# Altium schematic symbol library RC0603.SchLib: 789 symbols (part 4 of 11)
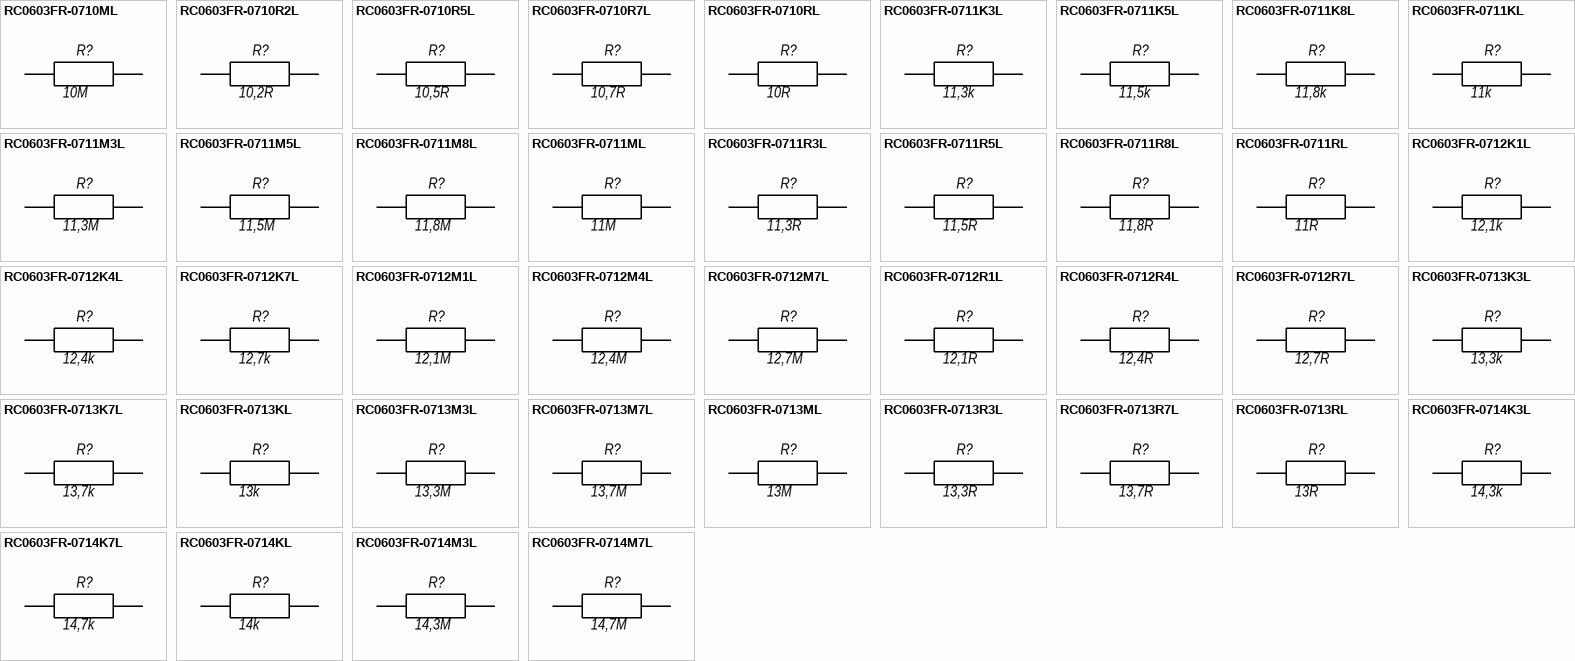
[diagram p22: symbols RC0603FR-0710ML to RC0603FR-0714M7L]

## RC0603FR-0713ML
designator R?, comment 13M
RC0603FR-0713ML 0603 13 MOhm ±1% 1/10W 0603 SMD -55C...+155C; Manufacturer: Yageo; BOM2: 13 MОм ±1%, 1/10 Вт, SMD 0603, RC0603FR-0713ML; ValueBOM: RC0603FR-0713ML   Yageo                            (13 MОм ±1%, 1/10 Вт, SMD 0603, RC0603FR-0713ML); Value: 13M; Part Number: RC0603FR-0713ML; Package: 0603; BOM1: 13 MOhm ±1% 1/10W 0603 SMD
footprint RESC_0603_1608N (Chip Resistor, Body 1.6x0.8mm, IPC Medium Density)
footprint RESC_0603_1608M (Chip Resistor, Body 1.6x0.8mm, IPC Low Density)
footprint RESC_0603_1608L (Chip Resistor, Body 1.6x0.8mm, IPC High Density)
pins: 1, 2

## RC0603FR-0713R3L
designator R?, comment 13,3R
RC0603FR-0713R3L 0603 13.3 Ohm ±1% 1/10W 0603 SMD -55C...+155C; Manufacturer: Yageo; BOM2: 13,3 Ом ±1%, 1/10 Вт, SMD 0603, RC0603FR-0713R3L; ValueBOM: RC0603FR-0713R3L   Yageo                            (13,3 Ом ±1%, 1/10 Вт, SMD 0603, RC0603FR-0713R3L); Value: 13,3R; Part Number: RC0603FR-0713R3L; Package: 0603; BOM1: 13.3 Ohm ±1% 1/10W 0603 SMD
footprint RESC_0603_1608N (Chip Resistor, Body 1.6x0.8mm, IPC Medium Density)
footprint RESC_0603_1608M (Chip Resistor, Body 1.6x0.8mm, IPC Low Density)
footprint RESC_0603_1608L (Chip Resistor, Body 1.6x0.8mm, IPC High Density)
pins: 1, 2

## RC0603FR-0713R7L
designator R?, comment 13,7R
RC0603FR-0713R7L 0603 13.7 Ohm ±1% 1/10W 0603 SMD -55C...+155C; Manufacturer: Yageo; BOM2: 13,7 Ом ±1%, 1/10 Вт, SMD 0603, RC0603FR-0713R7L; ValueBOM: RC0603FR-0713R7L   Yageo                            (13,7 Ом ±1%, 1/10 Вт, SMD 0603, RC0603FR-0713R7L); Value: 13,7R; Part Number: RC0603FR-0713R7L; Package: 0603; BOM1: 13.7 Ohm ±1% 1/10W 0603 SMD
footprint RESC_0603_1608N (Chip Resistor, Body 1.6x0.8mm, IPC Medium Density)
footprint RESC_0603_1608M (Chip Resistor, Body 1.6x0.8mm, IPC Low Density)
footprint RESC_0603_1608L (Chip Resistor, Body 1.6x0.8mm, IPC High Density)
pins: 1, 2

## RC0603FR-0713RL
designator R?, comment 13R
RC0603FR-0713RL 0603 13 Ohm ±1% 1/10W 0603 SMD -55C...+155C; Manufacturer: Yageo; BOM2: 13 Ом ±1%, 1/10 Вт, SMD 0603, RC0603FR-0713RL; ValueBOM: RC0603FR-0713RL   Yageo                            (13 Ом ±1%, 1/10 Вт, SMD 0603, RC0603FR-0713RL); Value: 13R; Part Number: RC0603FR-0713RL; Package: 0603; BOM1: 13 Ohm ±1% 1/10W 0603 SMD
footprint RESC_0603_1608N (Chip Resistor, Body 1.6x0.8mm, IPC Medium Density)
footprint RESC_0603_1608M (Chip Resistor, Body 1.6x0.8mm, IPC Low Density)
footprint RESC_0603_1608L (Chip Resistor, Body 1.6x0.8mm, IPC High Density)
pins: 1, 2

## RC0603FR-0714K3L
designator R?, comment 14,3k
RC0603FR-0714K3L 0603 14.3 kOhm ±1% 1/10W 0603 SMD -55C...+155C; Manufacturer: Yageo; BOM2: 14,3 кОм ±1%, 1/10 Вт, SMD 0603, RC0603FR-0714K3L; ValueBOM: RC0603FR-0714K3L   Yageo                            (14,3 кОм ±1%, 1/10 Вт, SMD 0603, RC0603FR-0714K3L); Value: 14,3k; Part Number: RC0603FR-0714K3L; Package: 0603; BOM1: 14.3 kOhm ±1% 1/10W 0603 SMD
footprint RESC_0603_1608N (Chip Resistor, Body 1.6x0.8mm, IPC Medium Density)
footprint RESC_0603_1608M (Chip Resistor, Body 1.6x0.8mm, IPC Low Density)
footprint RESC_0603_1608L (Chip Resistor, Body 1.6x0.8mm, IPC High Density)
pins: 1, 2

## RC0603FR-0714K7L
designator R?, comment 14,7k
RC0603FR-0714K7L 0603 14.7 kOhm ±1% 1/10W 0603 SMD -55C...+155C; Manufacturer: Yageo; BOM2: 14,7 кОм ±1%, 1/10 Вт, SMD 0603, RC0603FR-0714K7L; ValueBOM: RC0603FR-0714K7L   Yageo                            (14,7 кОм ±1%, 1/10 Вт, SMD 0603, RC0603FR-0714K7L); Value: 14,7k; Part Number: RC0603FR-0714K7L; Package: 0603; BOM1: 14.7 kOhm ±1% 1/10W 0603 SMD
footprint RESC_0603_1608N (Chip Resistor, Body 1.6x0.8mm, IPC Medium Density)
footprint RESC_0603_1608M (Chip Resistor, Body 1.6x0.8mm, IPC Low Density)
footprint RESC_0603_1608L (Chip Resistor, Body 1.6x0.8mm, IPC High Density)
pins: 1, 2

## RC0603FR-0714KL
designator R?, comment 14k
RC0603FR-0714KL 0603 14 kOhm ±1% 1/10W 0603 SMD -55C...+155C; Manufacturer: Yageo; BOM2: 14 кОм ±1%, 1/10 Вт, SMD 0603, RC0603FR-0714KL; ValueBOM: RC0603FR-0714KL   Yageo                            (14 кОм ±1%, 1/10 Вт, SMD 0603, RC0603FR-0714KL); Value: 14k; Part Number: RC0603FR-0714KL; Package: 0603; BOM1: 14 kOhm ±1% 1/10W 0603 SMD
footprint RESC_0603_1608N (Chip Resistor, Body 1.6x0.8mm, IPC Medium Density)
footprint RESC_0603_1608M (Chip Resistor, Body 1.6x0.8mm, IPC Low Density)
footprint RESC_0603_1608L (Chip Resistor, Body 1.6x0.8mm, IPC High Density)
pins: 1, 2

## RC0603FR-0714M3L
designator R?, comment 14,3M
RC0603FR-0714M3L 0603 14.3 MOhm ±1% 1/10W 0603 SMD -55C...+155C; Manufacturer: Yageo; BOM2: 14,3 МОм ±1%, 1/10 Вт, SMD 0603, RC0603FR-0714M3L; ValueBOM: RC0603FR-0714M3L   Yageo                            (14,3 МОм ±1%, 1/10 Вт, SMD 0603, RC0603FR-0714M3L); Value: 14,3M; Part Number: RC0603FR-0714M3L; Package: 0603; BOM1: 14.3 MOhm ±1% 1/10W 0603 SMD
footprint RESC_0603_1608N (Chip Resistor, Body 1.6x0.8mm, IPC Medium Density)
footprint RESC_0603_1608M (Chip Resistor, Body 1.6x0.8mm, IPC Low Density)
footprint RESC_0603_1608L (Chip Resistor, Body 1.6x0.8mm, IPC High Density)
pins: 1, 2

## RC0603FR-0714M7L
designator R?, comment 14,7M
RC0603FR-0714M7L 0603 14.7 MOhm ±1% 1/10W 0603 SMD -55C...+155C; Manufacturer: Yageo; BOM2: 14,7 МОм ±1%, 1/10 Вт, SMD 0603, RC0603FR-0714M7L; ValueBOM: RC0603FR-0714M7L   Yageo                            (14,7 МОм ±1%, 1/10 Вт, SMD 0603, RC0603FR-0714M7L); Value: 14,7M; Part Number: RC0603FR-0714M7L; Package: 0603; BOM1: 14.7 MOhm ±1% 1/10W 0603 SMD
footprint RESC_0603_1608N (Chip Resistor, Body 1.6x0.8mm, IPC Medium Density)
footprint RESC_0603_1608M (Chip Resistor, Body 1.6x0.8mm, IPC Low Density)
footprint RESC_0603_1608L (Chip Resistor, Body 1.6x0.8mm, IPC High Density)
pins: 1, 2

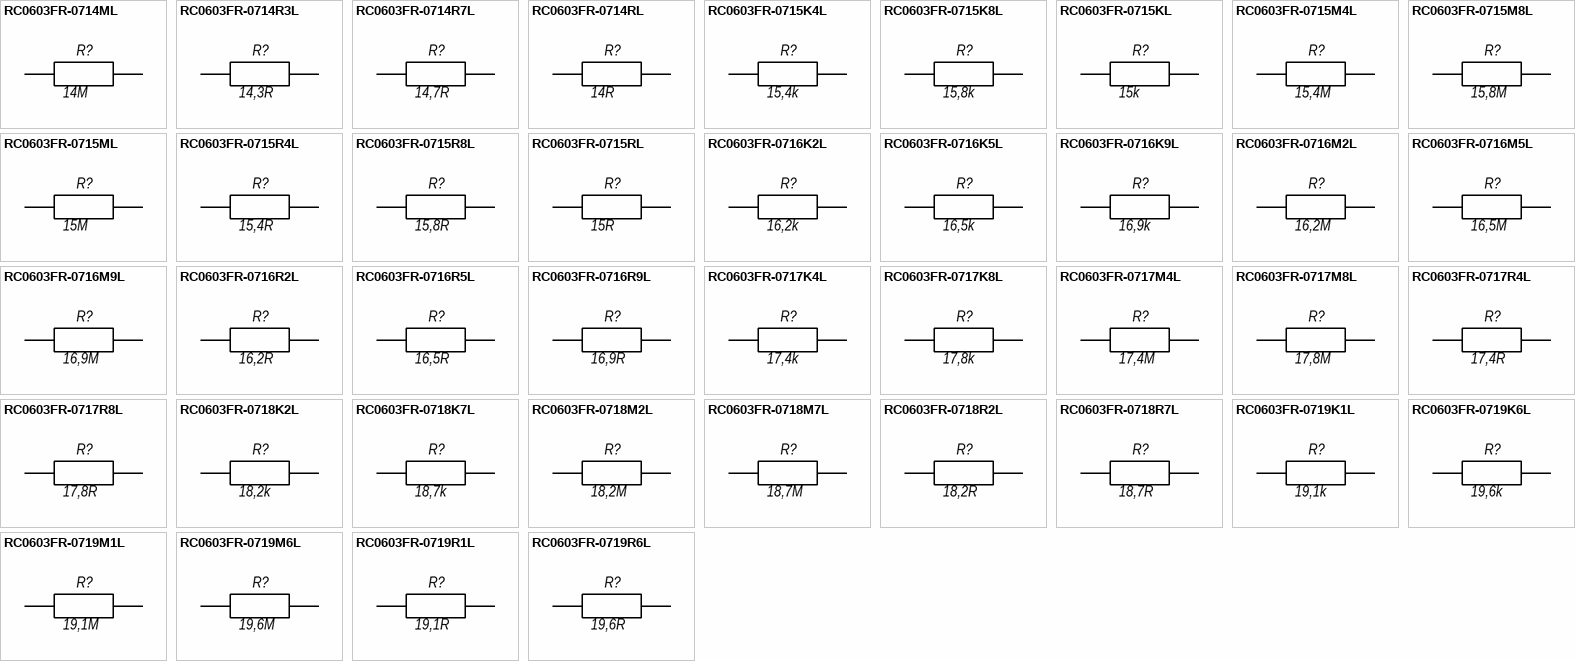
[diagram p6: symbols RC0603FR-0714ML to RC0603FR-0719R6L]

## RC0603FR-0714ML
designator R?, comment 14M
RC0603FR-0714ML 0603 14 MOhm ±1% 1/10W 0603 SMD -55C...+155C; Manufacturer: Yageo; BOM2: 14 MОм ±1%, 1/10 Вт, SMD 0603, RC0603FR-0714ML; ValueBOM: RC0603FR-0714ML   Yageo                            (14 MОм ±1%, 1/10 Вт, SMD 0603, RC0603FR-0714ML); Value: 14M; Part Number: RC0603FR-0714ML; Package: 0603; BOM1: 14 MOhm ±1% 1/10W 0603 SMD
footprint RESC_0603_1608N (Chip Resistor, Body 1.6x0.8mm, IPC Medium Density)
footprint RESC_0603_1608M (Chip Resistor, Body 1.6x0.8mm, IPC Low Density)
footprint RESC_0603_1608L (Chip Resistor, Body 1.6x0.8mm, IPC High Density)
pins: 1, 2

## RC0603FR-0714R3L
designator R?, comment 14,3R
RC0603FR-0714R3L 0603 14.3 Ohm ±1% 1/10W 0603 SMD -55C...+155C; Manufacturer: Yageo; BOM2: 14,3 Ом ±1%, 1/10 Вт, SMD 0603, RC0603FR-0714R3L; ValueBOM: RC0603FR-0714R3L   Yageo                            (14,3 Ом ±1%, 1/10 Вт, SMD 0603, RC0603FR-0714R3L); Value: 14,3R; Part Number: RC0603FR-0714R3L; Package: 0603; BOM1: 14.3 Ohm ±1% 1/10W 0603 SMD
footprint RESC_0603_1608N (Chip Resistor, Body 1.6x0.8mm, IPC Medium Density)
footprint RESC_0603_1608M (Chip Resistor, Body 1.6x0.8mm, IPC Low Density)
footprint RESC_0603_1608L (Chip Resistor, Body 1.6x0.8mm, IPC High Density)
pins: 1, 2

## RC0603FR-0714R7L
designator R?, comment 14,7R
RC0603FR-0714R7L 0603 14.7 Ohm ±1% 1/10W 0603 SMD -55C...+155C; Manufacturer: Yageo; BOM2: 14,7 Ом ±1%, 1/10 Вт, SMD 0603, RC0603FR-0714R7L; ValueBOM: RC0603FR-0714R7L   Yageo                            (14,7 Ом ±1%, 1/10 Вт, SMD 0603, RC0603FR-0714R7L); Value: 14,7R; Part Number: RC0603FR-0714R7L; Package: 0603; BOM1: 14.7 Ohm ±1% 1/10W 0603 SMD
footprint RESC_0603_1608N (Chip Resistor, Body 1.6x0.8mm, IPC Medium Density)
footprint RESC_0603_1608M (Chip Resistor, Body 1.6x0.8mm, IPC Low Density)
footprint RESC_0603_1608L (Chip Resistor, Body 1.6x0.8mm, IPC High Density)
pins: 1, 2

## RC0603FR-0714RL
designator R?, comment 14R
RC0603FR-0714RL 0603 14 Ohm ±1% 1/10W 0603 SMD -55C...+155C; Manufacturer: Yageo; BOM2: 14 Ом ±1%, 1/10 Вт, SMD 0603, RC0603FR-0714RL; ValueBOM: RC0603FR-0714RL   Yageo                            (14 Ом ±1%, 1/10 Вт, SMD 0603, RC0603FR-0714RL); Value: 14R; Part Number: RC0603FR-0714RL; Package: 0603; BOM1: 14 Ohm ±1% 1/10W 0603 SMD
footprint RESC_0603_1608N (Chip Resistor, Body 1.6x0.8mm, IPC Medium Density)
footprint RESC_0603_1608M (Chip Resistor, Body 1.6x0.8mm, IPC Low Density)
footprint RESC_0603_1608L (Chip Resistor, Body 1.6x0.8mm, IPC High Density)
pins: 1, 2

## RC0603FR-0715K4L
designator R?, comment 15,4k
RC0603FR-0715K4L 0603 15.4 kOhm ±1% 1/10W 0603 SMD -55C...+155C; Manufacturer: Yageo; BOM2: 15,4 кОм ±1%, 1/10 Вт, SMD 0603, RC0603FR-0715K4L; ValueBOM: RC0603FR-0715K4L   Yageo                            (15,4 кОм ±1%, 1/10 Вт, SMD 0603, RC0603FR-0715K4L); Value: 15,4k; Part Number: RC0603FR-0715K4L; Package: 0603; BOM1: 15.4 kOhm ±1% 1/10W 0603 SMD
footprint RESC_0603_1608N (Chip Resistor, Body 1.6x0.8mm, IPC Medium Density)
footprint RESC_0603_1608M (Chip Resistor, Body 1.6x0.8mm, IPC Low Density)
footprint RESC_0603_1608L (Chip Resistor, Body 1.6x0.8mm, IPC High Density)
pins: 1, 2

## RC0603FR-0715K8L
designator R?, comment 15,8k
RC0603FR-0715K8L 0603 15.8 kOhm ±1% 1/10W 0603 SMD -55C...+155C; Manufacturer: Yageo; BOM2: 15,8 кОм ±1%, 1/10 Вт, SMD 0603, RC0603FR-0715K8L; ValueBOM: RC0603FR-0715K8L   Yageo                            (15,8 кОм ±1%, 1/10 Вт, SMD 0603, RC0603FR-0715K8L); Value: 15,8k; Part Number: RC0603FR-0715K8L; Package: 0603; BOM1: 15.8 kOhm ±1% 1/10W 0603 SMD
footprint RESC_0603_1608N (Chip Resistor, Body 1.6x0.8mm, IPC Medium Density)
footprint RESC_0603_1608M (Chip Resistor, Body 1.6x0.8mm, IPC Low Density)
footprint RESC_0603_1608L (Chip Resistor, Body 1.6x0.8mm, IPC High Density)
pins: 1, 2

## RC0603FR-0715KL
designator R?, comment 15k
RC0603FR-0715KL 0603 15 kOhm ±1% 1/10W 0603 SMD -55C...+155C; Manufacturer: Yageo; BOM2: 15 кОм ±1%, 1/10 Вт, SMD 0603, RC0603FR-0715KL; ValueBOM: RC0603FR-0715KL   Yageo                            (15 кОм ±1%, 1/10 Вт, SMD 0603, RC0603FR-0715KL); Value: 15k; Part Number: RC0603FR-0715KL; Package: 0603; BOM1: 15 kOhm ±1% 1/10W 0603 SMD
footprint RESC_0603_1608N (Chip Resistor, Body 1.6x0.8mm, IPC Medium Density)
footprint RESC_0603_1608M (Chip Resistor, Body 1.6x0.8mm, IPC Low Density)
footprint RESC_0603_1608L (Chip Resistor, Body 1.6x0.8mm, IPC High Density)
pins: 1, 2

## RC0603FR-0715M4L
designator R?, comment 15,4M
RC0603FR-0715M4L 0603 15.4 MOhm ±1% 1/10W 0603 SMD -55C...+155C; Manufacturer: Yageo; BOM2: 15,4 МОм ±1%, 1/10 Вт, SMD 0603, RC0603FR-0715M4L; ValueBOM: RC0603FR-0715M4L   Yageo                            (15,4 МОм ±1%, 1/10 Вт, SMD 0603, RC0603FR-0715M4L); Value: 15,4M; Part Number: RC0603FR-0715M4L; Package: 0603; BOM1: 15.4 MOhm ±1% 1/10W 0603 SMD
footprint RESC_0603_1608N (Chip Resistor, Body 1.6x0.8mm, IPC Medium Density)
footprint RESC_0603_1608M (Chip Resistor, Body 1.6x0.8mm, IPC Low Density)
footprint RESC_0603_1608L (Chip Resistor, Body 1.6x0.8mm, IPC High Density)
pins: 1, 2

## RC0603FR-0715M8L
designator R?, comment 15,8M
RC0603FR-0715M8L 0603 15.8 MOhm ±1% 1/10W 0603 SMD -55C...+155C; Manufacturer: Yageo; BOM2: 15,8 МОм ±1%, 1/10 Вт, SMD 0603, RC0603FR-0715M8L; ValueBOM: RC0603FR-0715M8L   Yageo                            (15,8 МОм ±1%, 1/10 Вт, SMD 0603, RC0603FR-0715M8L); Value: 15,8M; Part Number: RC0603FR-0715M8L; Package: 0603; BOM1: 15.8 MOhm ±1% 1/10W 0603 SMD
footprint RESC_0603_1608N (Chip Resistor, Body 1.6x0.8mm, IPC Medium Density)
footprint RESC_0603_1608M (Chip Resistor, Body 1.6x0.8mm, IPC Low Density)
footprint RESC_0603_1608L (Chip Resistor, Body 1.6x0.8mm, IPC High Density)
pins: 1, 2

## RC0603FR-0715ML
designator R?, comment 15M
RC0603FR-0715ML 0603 15 MOhm ±1% 1/10W 0603 SMD -55C...+155C; Manufacturer: Yageo; BOM2: 15 MОм ±1%, 1/10 Вт, SMD 0603, RC0603FR-0715ML; ValueBOM: RC0603FR-0715ML   Yageo                            (15 MОм ±1%, 1/10 Вт, SMD 0603, RC0603FR-0715ML); Value: 15M; Part Number: RC0603FR-0715ML; Package: 0603; BOM1: 15 MOhm ±1% 1/10W 0603 SMD
footprint RESC_0603_1608N (Chip Resistor, Body 1.6x0.8mm, IPC Medium Density)
footprint RESC_0603_1608M (Chip Resistor, Body 1.6x0.8mm, IPC Low Density)
footprint RESC_0603_1608L (Chip Resistor, Body 1.6x0.8mm, IPC High Density)
pins: 1, 2

## RC0603FR-0715R4L
designator R?, comment 15,4R
RC0603FR-0715R4L 0603 15.4 Ohm ±1% 1/10W 0603 SMD -55C...+155C; Manufacturer: Yageo; BOM2: 15,4 Ом ±1%, 1/10 Вт, SMD 0603, RC0603FR-0715R4L; ValueBOM: RC0603FR-0715R4L   Yageo                            (15,4 Ом ±1%, 1/10 Вт, SMD 0603, RC0603FR-0715R4L); Value: 15,4R; Part Number: RC0603FR-0715R4L; Package: 0603; BOM1: 15.4 Ohm ±1% 1/10W 0603 SMD
footprint RESC_0603_1608N (Chip Resistor, Body 1.6x0.8mm, IPC Medium Density)
footprint RESC_0603_1608M (Chip Resistor, Body 1.6x0.8mm, IPC Low Density)
footprint RESC_0603_1608L (Chip Resistor, Body 1.6x0.8mm, IPC High Density)
pins: 1, 2

## RC0603FR-0715R8L
designator R?, comment 15,8R
RC0603FR-0715R8L 0603 15.8 Ohm ±1% 1/10W 0603 SMD -55C...+155C; Manufacturer: Yageo; BOM2: 15,8 Ом ±1%, 1/10 Вт, SMD 0603, RC0603FR-0715R8L; ValueBOM: RC0603FR-0715R8L   Yageo                            (15,8 Ом ±1%, 1/10 Вт, SMD 0603, RC0603FR-0715R8L); Value: 15,8R; Part Number: RC0603FR-0715R8L; Package: 0603; BOM1: 15.8 Ohm ±1% 1/10W 0603 SMD
footprint RESC_0603_1608N (Chip Resistor, Body 1.6x0.8mm, IPC Medium Density)
footprint RESC_0603_1608M (Chip Resistor, Body 1.6x0.8mm, IPC Low Density)
footprint RESC_0603_1608L (Chip Resistor, Body 1.6x0.8mm, IPC High Density)
pins: 1, 2

## RC0603FR-0715RL
designator R?, comment 15R
RC0603FR-0715RL 0603 15 Ohm ±1% 1/10W 0603 SMD -55C...+155C; Manufacturer: Yageo; BOM2: 15 Ом ±1%, 1/10 Вт, SMD 0603, RC0603FR-0715RL; ValueBOM: RC0603FR-0715RL   Yageo                            (15 Ом ±1%, 1/10 Вт, SMD 0603, RC0603FR-0715RL); Value: 15R; Part Number: RC0603FR-0715RL; Package: 0603; BOM1: 15 Ohm ±1% 1/10W 0603 SMD
footprint RESC_0603_1608N (Chip Resistor, Body 1.6x0.8mm, IPC Medium Density)
footprint RESC_0603_1608M (Chip Resistor, Body 1.6x0.8mm, IPC Low Density)
footprint RESC_0603_1608L (Chip Resistor, Body 1.6x0.8mm, IPC High Density)
pins: 1, 2

## RC0603FR-0716K2L
designator R?, comment 16,2k
RC0603FR-0716K2L 0603 16.2 kOhm ±1% 1/10W 0603 SMD -55C...+155C; Manufacturer: Yageo; BOM2: 16,2 кОм ±1%, 1/10 Вт, SMD 0603, RC0603FR-0716K2L; ValueBOM: RC0603FR-0716K2L   Yageo                            (16,2 кОм ±1%, 1/10 Вт, SMD 0603, RC0603FR-0716K2L); Value: 16,2k; Part Number: RC0603FR-0716K2L; Package: 0603; BOM1: 16.2 kOhm ±1% 1/10W 0603 SMD
footprint RESC_0603_1608N (Chip Resistor, Body 1.6x0.8mm, IPC Medium Density)
footprint RESC_0603_1608M (Chip Resistor, Body 1.6x0.8mm, IPC Low Density)
footprint RESC_0603_1608L (Chip Resistor, Body 1.6x0.8mm, IPC High Density)
pins: 1, 2

## RC0603FR-0716K5L
designator R?, comment 16,5k
RC0603FR-0716K5L 0603 16.5 kOhm ±1% 1/10W 0603 SMD -55C...+155C; Manufacturer: Yageo; BOM2: 16,5 кОм ±1%, 1/10 Вт, SMD 0603, RC0603FR-0716K5L; ValueBOM: RC0603FR-0716K5L   Yageo                            (16,5 кОм ±1%, 1/10 Вт, SMD 0603, RC0603FR-0716K5L); Value: 16,5k; Part Number: RC0603FR-0716K5L; Package: 0603; BOM1: 16.5 kOhm ±1% 1/10W 0603 SMD
footprint RESC_0603_1608N (Chip Resistor, Body 1.6x0.8mm, IPC Medium Density)
footprint RESC_0603_1608M (Chip Resistor, Body 1.6x0.8mm, IPC Low Density)
footprint RESC_0603_1608L (Chip Resistor, Body 1.6x0.8mm, IPC High Density)
pins: 1, 2

## RC0603FR-0716K9L
designator R?, comment 16,9k
RC0603FR-0716K9L 0603 16.9 kOhm ±1% 1/10W 0603 SMD -55C...+155C; Manufacturer: Yageo; BOM2: 16,9 кОм ±1%, 1/10 Вт, SMD 0603, RC0603FR-0716K9L; ValueBOM: RC0603FR-0716K9L   Yageo                            (16,9 кОм ±1%, 1/10 Вт, SMD 0603, RC0603FR-0716K9L); Value: 16,9k; Part Number: RC0603FR-0716K9L; Package: 0603; BOM1: 16.9 kOhm ±1% 1/10W 0603 SMD
footprint RESC_0603_1608N (Chip Resistor, Body 1.6x0.8mm, IPC Medium Density)
footprint RESC_0603_1608M (Chip Resistor, Body 1.6x0.8mm, IPC Low Density)
footprint RESC_0603_1608L (Chip Resistor, Body 1.6x0.8mm, IPC High Density)
pins: 1, 2

## RC0603FR-0716M2L
designator R?, comment 16,2M
RC0603FR-0716M2L 0603 16.2 MOhm ±1% 1/10W 0603 SMD -55C...+155C; Manufacturer: Yageo; BOM2: 16,2 МОм ±1%, 1/10 Вт, SMD 0603, RC0603FR-0716M2L; ValueBOM: RC0603FR-0716M2L   Yageo                            (16,2 МОм ±1%, 1/10 Вт, SMD 0603, RC0603FR-0716M2L); Value: 16,2M; Part Number: RC0603FR-0716M2L; Package: 0603; BOM1: 16.2 MOhm ±1% 1/10W 0603 SMD
footprint RESC_0603_1608N (Chip Resistor, Body 1.6x0.8mm, IPC Medium Density)
footprint RESC_0603_1608M (Chip Resistor, Body 1.6x0.8mm, IPC Low Density)
footprint RESC_0603_1608L (Chip Resistor, Body 1.6x0.8mm, IPC High Density)
pins: 1, 2

## RC0603FR-0716M5L
designator R?, comment 16,5M
RC0603FR-0716M5L 0603 16.5 MOhm ±1% 1/10W 0603 SMD -55C...+155C; Manufacturer: Yageo; BOM2: 16,5 МОм ±1%, 1/10 Вт, SMD 0603, RC0603FR-0716M5L; ValueBOM: RC0603FR-0716M5L   Yageo                            (16,5 МОм ±1%, 1/10 Вт, SMD 0603, RC0603FR-0716M5L); Value: 16,5M; Part Number: RC0603FR-0716M5L; Package: 0603; BOM1: 16.5 MOhm ±1% 1/10W 0603 SMD
footprint RESC_0603_1608N (Chip Resistor, Body 1.6x0.8mm, IPC Medium Density)
footprint RESC_0603_1608M (Chip Resistor, Body 1.6x0.8mm, IPC Low Density)
footprint RESC_0603_1608L (Chip Resistor, Body 1.6x0.8mm, IPC High Density)
pins: 1, 2

## RC0603FR-0716M9L
designator R?, comment 16,9M
RC0603FR-0716M9L 0603 16.9 MOhm ±1% 1/10W 0603 SMD -55C...+155C; Manufacturer: Yageo; BOM2: 16,9 МОм ±1%, 1/10 Вт, SMD 0603, RC0603FR-0716M9L; ValueBOM: RC0603FR-0716M9L   Yageo                            (16,9 МОм ±1%, 1/10 Вт, SMD 0603, RC0603FR-0716M9L); Value: 16,9M; Part Number: RC0603FR-0716M9L; Package: 0603; BOM1: 16.9 MOhm ±1% 1/10W 0603 SMD
footprint RESC_0603_1608N (Chip Resistor, Body 1.6x0.8mm, IPC Medium Density)
footprint RESC_0603_1608M (Chip Resistor, Body 1.6x0.8mm, IPC Low Density)
footprint RESC_0603_1608L (Chip Resistor, Body 1.6x0.8mm, IPC High Density)
pins: 1, 2

## RC0603FR-0716R2L
designator R?, comment 16,2R
RC0603FR-0716R2L 0603 16.2 Ohm ±1% 1/10W 0603 SMD -55C...+155C; Manufacturer: Yageo; BOM2: 16,2 Ом ±1%, 1/10 Вт, SMD 0603, RC0603FR-0716R2L; ValueBOM: RC0603FR-0716R2L   Yageo                            (16,2 Ом ±1%, 1/10 Вт, SMD 0603, RC0603FR-0716R2L); Value: 16,2R; Part Number: RC0603FR-0716R2L; Package: 0603; BOM1: 16.2 Ohm ±1% 1/10W 0603 SMD
footprint RESC_0603_1608N (Chip Resistor, Body 1.6x0.8mm, IPC Medium Density)
footprint RESC_0603_1608M (Chip Resistor, Body 1.6x0.8mm, IPC Low Density)
footprint RESC_0603_1608L (Chip Resistor, Body 1.6x0.8mm, IPC High Density)
pins: 1, 2

## RC0603FR-0716R5L
designator R?, comment 16,5R
RC0603FR-0716R5L 0603 16.5 Ohm ±1% 1/10W 0603 SMD -55C...+155C; Manufacturer: Yageo; BOM2: 16,5 Ом ±1%, 1/10 Вт, SMD 0603, RC0603FR-0716R5L; ValueBOM: RC0603FR-0716R5L   Yageo                            (16,5 Ом ±1%, 1/10 Вт, SMD 0603, RC0603FR-0716R5L); Value: 16,5R; Part Number: RC0603FR-0716R5L; Package: 0603; BOM1: 16.5 Ohm ±1% 1/10W 0603 SMD
footprint RESC_0603_1608N (Chip Resistor, Body 1.6x0.8mm, IPC Medium Density)
footprint RESC_0603_1608M (Chip Resistor, Body 1.6x0.8mm, IPC Low Density)
footprint RESC_0603_1608L (Chip Resistor, Body 1.6x0.8mm, IPC High Density)
pins: 1, 2

## RC0603FR-0716R9L
designator R?, comment 16,9R
RC0603FR-0716R9L 0603 16.9 Ohm ±1% 1/10W 0603 SMD -55C...+155C; Manufacturer: Yageo; BOM2: 16,9 Ом ±1%, 1/10 Вт, SMD 0603, RC0603FR-0716R9L; ValueBOM: RC0603FR-0716R9L   Yageo                            (16,9 Ом ±1%, 1/10 Вт, SMD 0603, RC0603FR-0716R9L); Value: 16,9R; Part Number: RC0603FR-0716R9L; Package: 0603; BOM1: 16.9 Ohm ±1% 1/10W 0603 SMD
footprint RESC_0603_1608N (Chip Resistor, Body 1.6x0.8mm, IPC Medium Density)
footprint RESC_0603_1608M (Chip Resistor, Body 1.6x0.8mm, IPC Low Density)
footprint RESC_0603_1608L (Chip Resistor, Body 1.6x0.8mm, IPC High Density)
pins: 1, 2

## RC0603FR-0717K4L
designator R?, comment 17,4k
RC0603FR-0717K4L 0603 17.4 kOhm ±1% 1/10W 0603 SMD -55C...+155C; Manufacturer: Yageo; BOM2: 17,4 кОм ±1%, 1/10 Вт, SMD 0603, RC0603FR-0717K4L; ValueBOM: RC0603FR-0717K4L   Yageo                            (17,4 кОм ±1%, 1/10 Вт, SMD 0603, RC0603FR-0717K4L); Value: 17,4k; Part Number: RC0603FR-0717K4L; Package: 0603; BOM1: 17.4 kOhm ±1% 1/10W 0603 SMD
footprint RESC_0603_1608N (Chip Resistor, Body 1.6x0.8mm, IPC Medium Density)
footprint RESC_0603_1608M (Chip Resistor, Body 1.6x0.8mm, IPC Low Density)
footprint RESC_0603_1608L (Chip Resistor, Body 1.6x0.8mm, IPC High Density)
pins: 1, 2

## RC0603FR-0717K8L
designator R?, comment 17,8k
RC0603FR-0717K8L 0603 17.8 kOhm ±1% 1/10W 0603 SMD -55C...+155C; Manufacturer: Yageo; BOM2: 17,8 кОм ±1%, 1/10 Вт, SMD 0603, RC0603FR-0717K8L; ValueBOM: RC0603FR-0717K8L   Yageo                            (17,8 кОм ±1%, 1/10 Вт, SMD 0603, RC0603FR-0717K8L); Value: 17,8k; Part Number: RC0603FR-0717K8L; Package: 0603; BOM1: 17.8 kOhm ±1% 1/10W 0603 SMD
footprint RESC_0603_1608N (Chip Resistor, Body 1.6x0.8mm, IPC Medium Density)
footprint RESC_0603_1608M (Chip Resistor, Body 1.6x0.8mm, IPC Low Density)
footprint RESC_0603_1608L (Chip Resistor, Body 1.6x0.8mm, IPC High Density)
pins: 1, 2

## RC0603FR-0717M4L
designator R?, comment 17,4M
RC0603FR-0717M4L 0603 17.4 MOhm ±1% 1/10W 0603 SMD -55C...+155C; Manufacturer: Yageo; BOM2: 17,4 МОм ±1%, 1/10 Вт, SMD 0603, RC0603FR-0717M4L; ValueBOM: RC0603FR-0717M4L   Yageo                            (17,4 МОм ±1%, 1/10 Вт, SMD 0603, RC0603FR-0717M4L); Value: 17,4M; Part Number: RC0603FR-0717M4L; Package: 0603; BOM1: 17.4 MOhm ±1% 1/10W 0603 SMD
footprint RESC_0603_1608N (Chip Resistor, Body 1.6x0.8mm, IPC Medium Density)
footprint RESC_0603_1608M (Chip Resistor, Body 1.6x0.8mm, IPC Low Density)
footprint RESC_0603_1608L (Chip Resistor, Body 1.6x0.8mm, IPC High Density)
pins: 1, 2

## RC0603FR-0717M8L
designator R?, comment 17,8M
RC0603FR-0717M8L 0603 17.8 MOhm ±1% 1/10W 0603 SMD -55C...+155C; Manufacturer: Yageo; BOM2: 17,8 МОм ±1%, 1/10 Вт, SMD 0603, RC0603FR-0717M8L; ValueBOM: RC0603FR-0717M8L   Yageo                            (17,8 МОм ±1%, 1/10 Вт, SMD 0603, RC0603FR-0717M8L); Value: 17,8M; Part Number: RC0603FR-0717M8L; Package: 0603; BOM1: 17.8 MOhm ±1% 1/10W 0603 SMD
footprint RESC_0603_1608N (Chip Resistor, Body 1.6x0.8mm, IPC Medium Density)
footprint RESC_0603_1608M (Chip Resistor, Body 1.6x0.8mm, IPC Low Density)
footprint RESC_0603_1608L (Chip Resistor, Body 1.6x0.8mm, IPC High Density)
pins: 1, 2

## RC0603FR-0717R4L
designator R?, comment 17,4R
RC0603FR-0717R4L 0603 17.4 Ohm ±1% 1/10W 0603 SMD -55C...+155C; Manufacturer: Yageo; BOM2: 17,4 Ом ±1%, 1/10 Вт, SMD 0603, RC0603FR-0717R4L; ValueBOM: RC0603FR-0717R4L   Yageo                            (17,4 Ом ±1%, 1/10 Вт, SMD 0603, RC0603FR-0717R4L); Value: 17,4R; Part Number: RC0603FR-0717R4L; Package: 0603; BOM1: 17.4 Ohm ±1% 1/10W 0603 SMD
footprint RESC_0603_1608N (Chip Resistor, Body 1.6x0.8mm, IPC Medium Density)
footprint RESC_0603_1608M (Chip Resistor, Body 1.6x0.8mm, IPC Low Density)
footprint RESC_0603_1608L (Chip Resistor, Body 1.6x0.8mm, IPC High Density)
pins: 1, 2

## RC0603FR-0717R8L
designator R?, comment 17,8R
RC0603FR-0717R8L 0603 17.8 Ohm ±1% 1/10W 0603 SMD -55C...+155C; Manufacturer: Yageo; BOM2: 17,8 Ом ±1%, 1/10 Вт, SMD 0603, RC0603FR-0717R8L; ValueBOM: RC0603FR-0717R8L   Yageo                            (17,8 Ом ±1%, 1/10 Вт, SMD 0603, RC0603FR-0717R8L); Value: 17,8R; Part Number: RC0603FR-0717R8L; Package: 0603; BOM1: 17.8 Ohm ±1% 1/10W 0603 SMD
footprint RESC_0603_1608N (Chip Resistor, Body 1.6x0.8mm, IPC Medium Density)
footprint RESC_0603_1608M (Chip Resistor, Body 1.6x0.8mm, IPC Low Density)
footprint RESC_0603_1608L (Chip Resistor, Body 1.6x0.8mm, IPC High Density)
pins: 1, 2

## RC0603FR-0718K2L
designator R?, comment 18,2k
RC0603FR-0718K2L 0603 18.2 kOhm ±1% 1/10W 0603 SMD -55C...+155C; Manufacturer: Yageo; BOM2: 18,2 кОм ±1%, 1/10 Вт, SMD 0603, RC0603FR-0718K2L; ValueBOM: RC0603FR-0718K2L   Yageo                            (18,2 кОм ±1%, 1/10 Вт, SMD 0603, RC0603FR-0718K2L); Value: 18,2k; Part Number: RC0603FR-0718K2L; Package: 0603; BOM1: 18.2 kOhm ±1% 1/10W 0603 SMD
footprint RESC_0603_1608N (Chip Resistor, Body 1.6x0.8mm, IPC Medium Density)
footprint RESC_0603_1608M (Chip Resistor, Body 1.6x0.8mm, IPC Low Density)
footprint RESC_0603_1608L (Chip Resistor, Body 1.6x0.8mm, IPC High Density)
pins: 1, 2

## RC0603FR-0718K7L
designator R?, comment 18,7k
RC0603FR-0718K7L 0603 18.7 kOhm ±1% 1/10W 0603 SMD -55C...+155C; Manufacturer: Yageo; BOM2: 18,7 кОм ±1%, 1/10 Вт, SMD 0603, RC0603FR-0718K7L; ValueBOM: RC0603FR-0718K7L   Yageo                            (18,7 кОм ±1%, 1/10 Вт, SMD 0603, RC0603FR-0718K7L); Value: 18,7k; Part Number: RC0603FR-0718K7L; Package: 0603; BOM1: 18.7 kOhm ±1% 1/10W 0603 SMD
footprint RESC_0603_1608N (Chip Resistor, Body 1.6x0.8mm, IPC Medium Density)
footprint RESC_0603_1608M (Chip Resistor, Body 1.6x0.8mm, IPC Low Density)
footprint RESC_0603_1608L (Chip Resistor, Body 1.6x0.8mm, IPC High Density)
pins: 1, 2

## RC0603FR-0718M2L
designator R?, comment 18,2M
RC0603FR-0718M2L 0603 18.2 MOhm ±1% 1/10W 0603 SMD -55C...+155C; Manufacturer: Yageo; BOM2: 18,2 МОм ±1%, 1/10 Вт, SMD 0603, RC0603FR-0718M2L; ValueBOM: RC0603FR-0718M2L   Yageo                            (18,2 МОм ±1%, 1/10 Вт, SMD 0603, RC0603FR-0718M2L); Value: 18,2M; Part Number: RC0603FR-0718M2L; Package: 0603; BOM1: 18.2 MOhm ±1% 1/10W 0603 SMD
footprint RESC_0603_1608N (Chip Resistor, Body 1.6x0.8mm, IPC Medium Density)
footprint RESC_0603_1608M (Chip Resistor, Body 1.6x0.8mm, IPC Low Density)
footprint RESC_0603_1608L (Chip Resistor, Body 1.6x0.8mm, IPC High Density)
pins: 1, 2

## RC0603FR-0718M7L
designator R?, comment 18,7M
RC0603FR-0718M7L 0603 18.7 MOhm ±1% 1/10W 0603 SMD -55C...+155C; Manufacturer: Yageo; BOM2: 18,7 МОм ±1%, 1/10 Вт, SMD 0603, RC0603FR-0718M7L; ValueBOM: RC0603FR-0718M7L   Yageo                            (18,7 МОм ±1%, 1/10 Вт, SMD 0603, RC0603FR-0718M7L); Value: 18,7M; Part Number: RC0603FR-0718M7L; Package: 0603; BOM1: 18.7 MOhm ±1% 1/10W 0603 SMD
footprint RESC_0603_1608N (Chip Resistor, Body 1.6x0.8mm, IPC Medium Density)
footprint RESC_0603_1608M (Chip Resistor, Body 1.6x0.8mm, IPC Low Density)
footprint RESC_0603_1608L (Chip Resistor, Body 1.6x0.8mm, IPC High Density)
pins: 1, 2

## RC0603FR-0718R2L
designator R?, comment 18,2R
RC0603FR-0718R2L 0603 18.2 Ohm ±1% 1/10W 0603 SMD -55C...+155C; Manufacturer: Yageo; BOM2: 18,2 Ом ±1%, 1/10 Вт, SMD 0603, RC0603FR-0718R2L; ValueBOM: RC0603FR-0718R2L   Yageo                            (18,2 Ом ±1%, 1/10 Вт, SMD 0603, RC0603FR-0718R2L); Value: 18,2R; Part Number: RC0603FR-0718R2L; Package: 0603; BOM1: 18.2 Ohm ±1% 1/10W 0603 SMD
footprint RESC_0603_1608N (Chip Resistor, Body 1.6x0.8mm, IPC Medium Density)
footprint RESC_0603_1608M (Chip Resistor, Body 1.6x0.8mm, IPC Low Density)
footprint RESC_0603_1608L (Chip Resistor, Body 1.6x0.8mm, IPC High Density)
pins: 1, 2

## RC0603FR-0718R7L
designator R?, comment 18,7R
RC0603FR-0718R7L 0603 18.7 Ohm ±1% 1/10W 0603 SMD -55C...+155C; Manufacturer: Yageo; BOM2: 18,7 Ом ±1%, 1/10 Вт, SMD 0603, RC0603FR-0718R7L; ValueBOM: RC0603FR-0718R7L   Yageo                            (18,7 Ом ±1%, 1/10 Вт, SMD 0603, RC0603FR-0718R7L); Value: 18,7R; Part Number: RC0603FR-0718R7L; Package: 0603; BOM1: 18.7 Ohm ±1% 1/10W 0603 SMD
footprint RESC_0603_1608N (Chip Resistor, Body 1.6x0.8mm, IPC Medium Density)
footprint RESC_0603_1608M (Chip Resistor, Body 1.6x0.8mm, IPC Low Density)
footprint RESC_0603_1608L (Chip Resistor, Body 1.6x0.8mm, IPC High Density)
pins: 1, 2

## RC0603FR-0719K1L
designator R?, comment 19,1k
RC0603FR-0719K1L 0603 19.1 kOhm ±1% 1/10W 0603 SMD -55C...+155C; Manufacturer: Yageo; BOM2: 19,1 кОм ±1%, 1/10 Вт, SMD 0603, RC0603FR-0719K1L; ValueBOM: RC0603FR-0719K1L   Yageo                            (19,1 кОм ±1%, 1/10 Вт, SMD 0603, RC0603FR-0719K1L); Value: 19,1k; Part Number: RC0603FR-0719K1L; Package: 0603; BOM1: 19.1 kOhm ±1% 1/10W 0603 SMD
footprint RESC_0603_1608N (Chip Resistor, Body 1.6x0.8mm, IPC Medium Density)
footprint RESC_0603_1608M (Chip Resistor, Body 1.6x0.8mm, IPC Low Density)
footprint RESC_0603_1608L (Chip Resistor, Body 1.6x0.8mm, IPC High Density)
pins: 1, 2

## RC0603FR-0719K6L
designator R?, comment 19,6k
RC0603FR-0719K6L 0603 19.6 kOhm ±1% 1/10W 0603 SMD -55C...+155C; Manufacturer: Yageo; BOM2: 19,6 кОм ±1%, 1/10 Вт, SMD 0603, RC0603FR-0719K6L; ValueBOM: RC0603FR-0719K6L   Yageo                            (19,6 кОм ±1%, 1/10 Вт, SMD 0603, RC0603FR-0719K6L); Value: 19,6k; Part Number: RC0603FR-0719K6L; Package: 0603; BOM1: 19.6 kOhm ±1% 1/10W 0603 SMD
footprint RESC_0603_1608N (Chip Resistor, Body 1.6x0.8mm, IPC Medium Density)
footprint RESC_0603_1608M (Chip Resistor, Body 1.6x0.8mm, IPC Low Density)
footprint RESC_0603_1608L (Chip Resistor, Body 1.6x0.8mm, IPC High Density)
pins: 1, 2

## RC0603FR-0719M1L
designator R?, comment 19,1M
RC0603FR-0719M1L 0603 19.1 MOhm ±1% 1/10W 0603 SMD -55C...+155C; Manufacturer: Yageo; BOM2: 19,1 МОм ±1%, 1/10 Вт, SMD 0603, RC0603FR-0719M1L; ValueBOM: RC0603FR-0719M1L   Yageo                            (19,1 МОм ±1%, 1/10 Вт, SMD 0603, RC0603FR-0719M1L); Value: 19,1M; Part Number: RC0603FR-0719M1L; Package: 0603; BOM1: 19.1 MOhm ±1% 1/10W 0603 SMD
footprint RESC_0603_1608N (Chip Resistor, Body 1.6x0.8mm, IPC Medium Density)
footprint RESC_0603_1608M (Chip Resistor, Body 1.6x0.8mm, IPC Low Density)
footprint RESC_0603_1608L (Chip Resistor, Body 1.6x0.8mm, IPC High Density)
pins: 1, 2

## RC0603FR-0719M6L
designator R?, comment 19,6M
RC0603FR-0719M6L 0603 19.6 MOhm ±1% 1/10W 0603 SMD -55C...+155C; Manufacturer: Yageo; BOM2: 19,6 МОм ±1%, 1/10 Вт, SMD 0603, RC0603FR-0719M6L; ValueBOM: RC0603FR-0719M6L   Yageo                            (19,6 МОм ±1%, 1/10 Вт, SMD 0603, RC0603FR-0719M6L); Value: 19,6M; Part Number: RC0603FR-0719M6L; Package: 0603; BOM1: 19.6 MOhm ±1% 1/10W 0603 SMD
footprint RESC_0603_1608N (Chip Resistor, Body 1.6x0.8mm, IPC Medium Density)
footprint RESC_0603_1608M (Chip Resistor, Body 1.6x0.8mm, IPC Low Density)
footprint RESC_0603_1608L (Chip Resistor, Body 1.6x0.8mm, IPC High Density)
pins: 1, 2

## RC0603FR-0719R1L
designator R?, comment 19,1R
RC0603FR-0719R1L 0603 19.1 Ohm ±1% 1/10W 0603 SMD -55C...+155C; Manufacturer: Yageo; BOM2: 19,1 Ом ±1%, 1/10 Вт, SMD 0603, RC0603FR-0719R1L; ValueBOM: RC0603FR-0719R1L   Yageo                            (19,1 Ом ±1%, 1/10 Вт, SMD 0603, RC0603FR-0719R1L); Value: 19,1R; Part Number: RC0603FR-0719R1L; Package: 0603; BOM1: 19.1 Ohm ±1% 1/10W 0603 SMD
footprint RESC_0603_1608N (Chip Resistor, Body 1.6x0.8mm, IPC Medium Density)
footprint RESC_0603_1608M (Chip Resistor, Body 1.6x0.8mm, IPC Low Density)
footprint RESC_0603_1608L (Chip Resistor, Body 1.6x0.8mm, IPC High Density)
pins: 1, 2

## RC0603FR-0719R6L
designator R?, comment 19,6R
RC0603FR-0719R6L 0603 19.6 Ohm ±1% 1/10W 0603 SMD -55C...+155C; Manufacturer: Yageo; BOM2: 19,6 Ом ±1%, 1/10 Вт, SMD 0603, RC0603FR-0719R6L; ValueBOM: RC0603FR-0719R6L   Yageo                            (19,6 Ом ±1%, 1/10 Вт, SMD 0603, RC0603FR-0719R6L); Value: 19,6R; Part Number: RC0603FR-0719R6L; Package: 0603; BOM1: 19.6 Ohm ±1% 1/10W 0603 SMD
footprint RESC_0603_1608N (Chip Resistor, Body 1.6x0.8mm, IPC Medium Density)
footprint RESC_0603_1608M (Chip Resistor, Body 1.6x0.8mm, IPC Low Density)
footprint RESC_0603_1608L (Chip Resistor, Body 1.6x0.8mm, IPC High Density)
pins: 1, 2

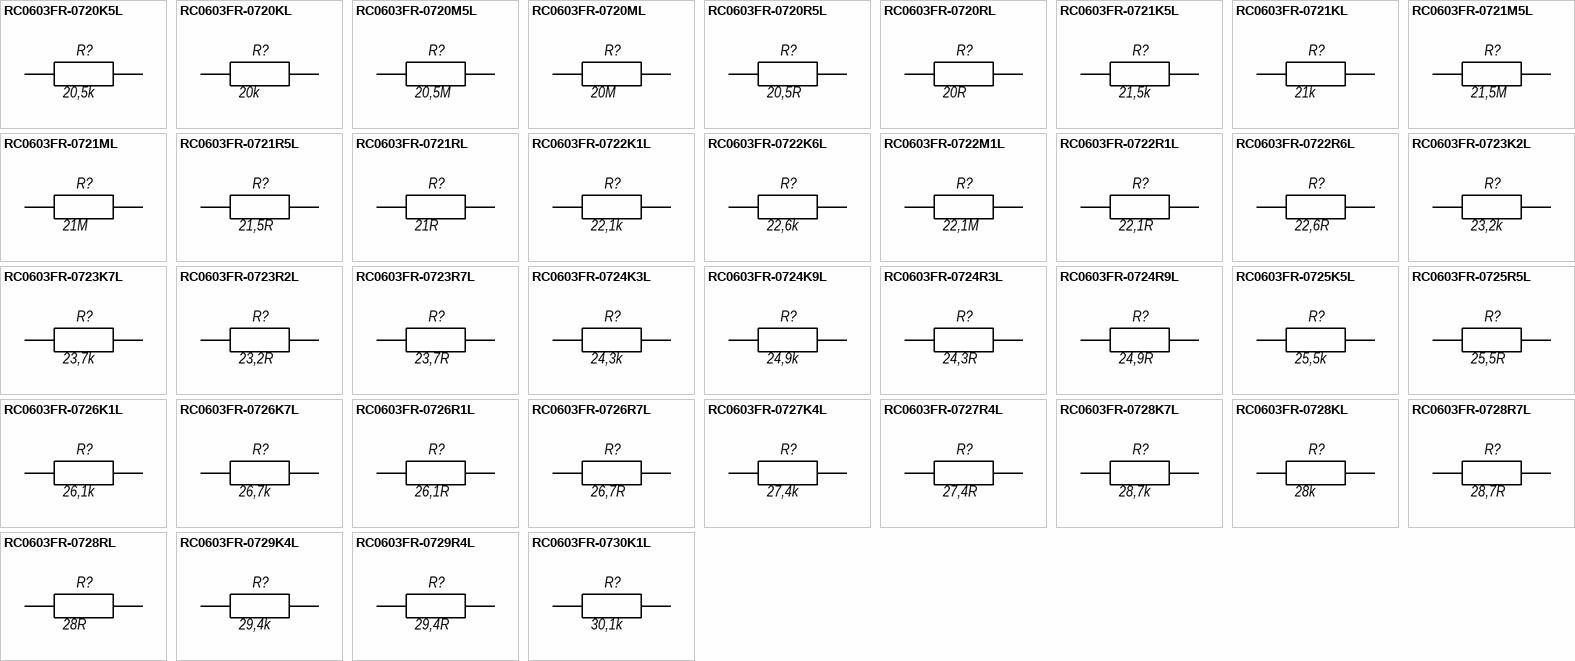
[diagram p7: symbols RC0603FR-0720K5L to RC0603FR-0730K1L]

## RC0603FR-0720K5L
designator R?, comment 20,5k
RC0603FR-0720K5L 0603 20.5 kOhm ±1% 1/10W 0603 SMD -55C...+155C; Manufacturer: Yageo; BOM2: 20,5 кОм ±1%, 1/10 Вт, SMD 0603, RC0603FR-0720K5L; ValueBOM: RC0603FR-0720K5L   Yageo                            (20,5 кОм ±1%, 1/10 Вт, SMD 0603, RC0603FR-0720K5L); Value: 20,5k; Part Number: RC0603FR-0720K5L; Package: 0603; BOM1: 20.5 kOhm ±1% 1/10W 0603 SMD
footprint RESC_0603_1608N (Chip Resistor, Body 1.6x0.8mm, IPC Medium Density)
footprint RESC_0603_1608M (Chip Resistor, Body 1.6x0.8mm, IPC Low Density)
footprint RESC_0603_1608L (Chip Resistor, Body 1.6x0.8mm, IPC High Density)
pins: 1, 2

## RC0603FR-0720KL
designator R?, comment 20k
RC0603FR-0720KL 0603 20 kOhm ±1% 1/10W 0603 SMD -55C...+155C; Manufacturer: Yageo; BOM2: 20 кОм ±1%, 1/10 Вт, SMD 0603, RC0603FR-0720KL; ValueBOM: RC0603FR-0720KL   Yageo                            (20 кОм ±1%, 1/10 Вт, SMD 0603, RC0603FR-0720KL); Value: 20k; Part Number: RC0603FR-0720KL; Package: 0603; BOM1: 20 kOhm ±1% 1/10W 0603 SMD
footprint RESC_0603_1608N (Chip Resistor, Body 1.6x0.8mm, IPC Medium Density)
footprint RESC_0603_1608M (Chip Resistor, Body 1.6x0.8mm, IPC Low Density)
footprint RESC_0603_1608L (Chip Resistor, Body 1.6x0.8mm, IPC High Density)
pins: 1, 2

## RC0603FR-0720M5L
designator R?, comment 20,5M
RC0603FR-0720M5L 0603 20.5 MOhm ±1% 1/10W 0603 SMD -55C...+155C; Manufacturer: Yageo; BOM2: 20,5 МОм ±1%, 1/10 Вт, SMD 0603, RC0603FR-0720M5L; ValueBOM: RC0603FR-0720M5L   Yageo                            (20,5 МОм ±1%, 1/10 Вт, SMD 0603, RC0603FR-0720M5L); Value: 20,5M; Part Number: RC0603FR-0720M5L; Package: 0603; BOM1: 20.5 MOhm ±1% 1/10W 0603 SMD
footprint RESC_0603_1608N (Chip Resistor, Body 1.6x0.8mm, IPC Medium Density)
footprint RESC_0603_1608M (Chip Resistor, Body 1.6x0.8mm, IPC Low Density)
footprint RESC_0603_1608L (Chip Resistor, Body 1.6x0.8mm, IPC High Density)
pins: 1, 2

## RC0603FR-0720ML
designator R?, comment 20M
RC0603FR-0720ML 0603 20 MOhm ±1% 1/10W 0603 SMD -55C...+155C; Manufacturer: Yageo; BOM2: 20 MОм ±1%, 1/10 Вт, SMD 0603, RC0603FR-0720ML; ValueBOM: RC0603FR-0720ML   Yageo                            (20 MОм ±1%, 1/10 Вт, SMD 0603, RC0603FR-0720ML); Value: 20M; Part Number: RC0603FR-0720ML; Package: 0603; BOM1: 20 MOhm ±1% 1/10W 0603 SMD
footprint RESC_0603_1608N (Chip Resistor, Body 1.6x0.8mm, IPC Medium Density)
footprint RESC_0603_1608M (Chip Resistor, Body 1.6x0.8mm, IPC Low Density)
footprint RESC_0603_1608L (Chip Resistor, Body 1.6x0.8mm, IPC High Density)
pins: 1, 2

## RC0603FR-0720R5L
designator R?, comment 20,5R
RC0603FR-0720R5L 0603 20.5 Ohm ±1% 1/10W 0603 SMD -55C...+155C; Manufacturer: Yageo; BOM2: 20,5 Ом ±1%, 1/10 Вт, SMD 0603, RC0603FR-0720R5L; ValueBOM: RC0603FR-0720R5L   Yageo                            (20,5 Ом ±1%, 1/10 Вт, SMD 0603, RC0603FR-0720R5L); Value: 20,5R; Part Number: RC0603FR-0720R5L; Package: 0603; BOM1: 20.5 Ohm ±1% 1/10W 0603 SMD
footprint RESC_0603_1608N (Chip Resistor, Body 1.6x0.8mm, IPC Medium Density)
footprint RESC_0603_1608M (Chip Resistor, Body 1.6x0.8mm, IPC Low Density)
footprint RESC_0603_1608L (Chip Resistor, Body 1.6x0.8mm, IPC High Density)
pins: 1, 2

## RC0603FR-0720RL
designator R?, comment 20R
RC0603FR-0720RL 0603 20 Ohm ±1% 1/10W 0603 SMD -55C...+155C; Manufacturer: Yageo; BOM2: 20 Ом ±1%, 1/10 Вт, SMD 0603, RC0603FR-0720RL; ValueBOM: RC0603FR-0720RL   Yageo                            (20 Ом ±1%, 1/10 Вт, SMD 0603, RC0603FR-0720RL); Value: 20R; Part Number: RC0603FR-0720RL; Package: 0603; BOM1: 20 Ohm ±1% 1/10W 0603 SMD
footprint RESC_0603_1608N (Chip Resistor, Body 1.6x0.8mm, IPC Medium Density)
footprint RESC_0603_1608M (Chip Resistor, Body 1.6x0.8mm, IPC Low Density)
footprint RESC_0603_1608L (Chip Resistor, Body 1.6x0.8mm, IPC High Density)
pins: 1, 2

## RC0603FR-0721K5L
designator R?, comment 21,5k
RC0603FR-0721K5L 0603 21.5 kOhm ±1% 1/10W 0603 SMD -55C...+155C; Manufacturer: Yageo; BOM2: 21,5 кОм ±1%, 1/10 Вт, SMD 0603, RC0603FR-0721K5L; ValueBOM: RC0603FR-0721K5L   Yageo                            (21,5 кОм ±1%, 1/10 Вт, SMD 0603, RC0603FR-0721K5L); Value: 21,5k; Part Number: RC0603FR-0721K5L; Package: 0603; BOM1: 21.5 kOhm ±1% 1/10W 0603 SMD
footprint RESC_0603_1608N (Chip Resistor, Body 1.6x0.8mm, IPC Medium Density)
footprint RESC_0603_1608M (Chip Resistor, Body 1.6x0.8mm, IPC Low Density)
footprint RESC_0603_1608L (Chip Resistor, Body 1.6x0.8mm, IPC High Density)
pins: 1, 2

## RC0603FR-0721KL
designator R?, comment 21k
RC0603FR-0721KL 0603 21 kOhm ±1% 1/10W 0603 SMD -55C...+155C; Manufacturer: Yageo; BOM2: 21 кОм ±1%, 1/10 Вт, SMD 0603, RC0603FR-0721KL; ValueBOM: RC0603FR-0721KL   Yageo                            (21 кОм ±1%, 1/10 Вт, SMD 0603, RC0603FR-0721KL); Value: 21k; Part Number: RC0603FR-0721KL; Package: 0603; BOM1: 21 kOhm ±1% 1/10W 0603 SMD
footprint RESC_0603_1608N (Chip Resistor, Body 1.6x0.8mm, IPC Medium Density)
footprint RESC_0603_1608M (Chip Resistor, Body 1.6x0.8mm, IPC Low Density)
footprint RESC_0603_1608L (Chip Resistor, Body 1.6x0.8mm, IPC High Density)
pins: 1, 2

## RC0603FR-0721M5L
designator R?, comment 21,5M
RC0603FR-0721M5L 0603 21.5 MOhm ±1% 1/10W 0603 SMD -55C...+155C; Manufacturer: Yageo; BOM2: 21,5 МОм ±1%, 1/10 Вт, SMD 0603, RC0603FR-0721M5L; ValueBOM: RC0603FR-0721M5L   Yageo                            (21,5 МОм ±1%, 1/10 Вт, SMD 0603, RC0603FR-0721M5L); Value: 21,5M; Part Number: RC0603FR-0721M5L; Package: 0603; BOM1: 21.5 MOhm ±1% 1/10W 0603 SMD
footprint RESC_0603_1608N (Chip Resistor, Body 1.6x0.8mm, IPC Medium Density)
footprint RESC_0603_1608M (Chip Resistor, Body 1.6x0.8mm, IPC Low Density)
footprint RESC_0603_1608L (Chip Resistor, Body 1.6x0.8mm, IPC High Density)
pins: 1, 2

## RC0603FR-0721ML
designator R?, comment 21M
RC0603FR-0721ML 0603 21 MOhm ±1% 1/10W 0603 SMD -55C...+155C; Manufacturer: Yageo; BOM2: 21 MОм ±1%, 1/10 Вт, SMD 0603, RC0603FR-0721ML; ValueBOM: RC0603FR-0721ML   Yageo                            (21 MОм ±1%, 1/10 Вт, SMD 0603, RC0603FR-0721ML); Value: 21M; Part Number: RC0603FR-0721ML; Package: 0603; BOM1: 21 MOhm ±1% 1/10W 0603 SMD
footprint RESC_0603_1608N (Chip Resistor, Body 1.6x0.8mm, IPC Medium Density)
footprint RESC_0603_1608M (Chip Resistor, Body 1.6x0.8mm, IPC Low Density)
footprint RESC_0603_1608L (Chip Resistor, Body 1.6x0.8mm, IPC High Density)
pins: 1, 2

## RC0603FR-0721R5L
designator R?, comment 21,5R
RC0603FR-0721R5L 0603 21.5 Ohm ±1% 1/10W 0603 SMD -55C...+155C; Manufacturer: Yageo; BOM2: 21,5 Ом ±1%, 1/10 Вт, SMD 0603, RC0603FR-0721R5L; ValueBOM: RC0603FR-0721R5L   Yageo                            (21,5 Ом ±1%, 1/10 Вт, SMD 0603, RC0603FR-0721R5L); Value: 21,5R; Part Number: RC0603FR-0721R5L; Package: 0603; BOM1: 21.5 Ohm ±1% 1/10W 0603 SMD
footprint RESC_0603_1608N (Chip Resistor, Body 1.6x0.8mm, IPC Medium Density)
footprint RESC_0603_1608M (Chip Resistor, Body 1.6x0.8mm, IPC Low Density)
footprint RESC_0603_1608L (Chip Resistor, Body 1.6x0.8mm, IPC High Density)
pins: 1, 2

## RC0603FR-0721RL
designator R?, comment 21R
RC0603FR-0721RL 0603 21 Ohm ±1% 1/10W 0603 SMD -55C...+155C; Manufacturer: Yageo; BOM2: 21 Ом ±1%, 1/10 Вт, SMD 0603, RC0603FR-0721RL; ValueBOM: RC0603FR-0721RL   Yageo                            (21 Ом ±1%, 1/10 Вт, SMD 0603, RC0603FR-0721RL); Value: 21R; Part Number: RC0603FR-0721RL; Package: 0603; BOM1: 21 Ohm ±1% 1/10W 0603 SMD
footprint RESC_0603_1608N (Chip Resistor, Body 1.6x0.8mm, IPC Medium Density)
footprint RESC_0603_1608M (Chip Resistor, Body 1.6x0.8mm, IPC Low Density)
footprint RESC_0603_1608L (Chip Resistor, Body 1.6x0.8mm, IPC High Density)
pins: 1, 2

## RC0603FR-0722K1L
designator R?, comment 22,1k
RC0603FR-0722K1L 0603 22.1 kOhm ±1% 1/10W 0603 SMD -55C...+155C; Manufacturer: Yageo; BOM2: 22,1 кОм ±1%, 1/10 Вт, SMD 0603, RC0603FR-0722K1L; ValueBOM: RC0603FR-0722K1L   Yageo                            (22,1 кОм ±1%, 1/10 Вт, SMD 0603, RC0603FR-0722K1L); Value: 22,1k; Part Number: RC0603FR-0722K1L; Package: 0603; BOM1: 22.1 kOhm ±1% 1/10W 0603 SMD
footprint RESC_0603_1608N (Chip Resistor, Body 1.6x0.8mm, IPC Medium Density)
footprint RESC_0603_1608M (Chip Resistor, Body 1.6x0.8mm, IPC Low Density)
footprint RESC_0603_1608L (Chip Resistor, Body 1.6x0.8mm, IPC High Density)
pins: 1, 2

## RC0603FR-0722K6L
designator R?, comment 22,6k
RC0603FR-0722K6L 0603 22.6 kOhm ±1% 1/10W 0603 SMD -55C...+155C; Manufacturer: Yageo; BOM2: 22,6 кОм ±1%, 1/10 Вт, SMD 0603, RC0603FR-0722K6L; ValueBOM: RC0603FR-0722K6L   Yageo                            (22,6 кОм ±1%, 1/10 Вт, SMD 0603, RC0603FR-0722K6L); Value: 22,6k; Part Number: RC0603FR-0722K6L; Package: 0603; BOM1: 22.6 kOhm ±1% 1/10W 0603 SMD
footprint RESC_0603_1608N (Chip Resistor, Body 1.6x0.8mm, IPC Medium Density)
footprint RESC_0603_1608M (Chip Resistor, Body 1.6x0.8mm, IPC Low Density)
footprint RESC_0603_1608L (Chip Resistor, Body 1.6x0.8mm, IPC High Density)
pins: 1, 2

## RC0603FR-0722M1L
designator R?, comment 22,1M
RC0603FR-0722M1L 0603 22.1 MOhm ±1% 1/10W 0603 SMD -55C...+155C; Manufacturer: Yageo; BOM2: 22,1 МОм ±1%, 1/10 Вт, SMD 0603, RC0603FR-0722M1L; ValueBOM: RC0603FR-0722M1L   Yageo                            (22,1 МОм ±1%, 1/10 Вт, SMD 0603, RC0603FR-0722M1L); Value: 22,1M; Part Number: RC0603FR-0722M1L; Package: 0603; BOM1: 22.1 MOhm ±1% 1/10W 0603 SMD
footprint RESC_0603_1608N (Chip Resistor, Body 1.6x0.8mm, IPC Medium Density)
footprint RESC_0603_1608M (Chip Resistor, Body 1.6x0.8mm, IPC Low Density)
footprint RESC_0603_1608L (Chip Resistor, Body 1.6x0.8mm, IPC High Density)
pins: 1, 2

## RC0603FR-0722R1L
designator R?, comment 22,1R
RC0603FR-0722R1L 0603 22.1 Ohm ±1% 1/10W 0603 SMD -55C...+155C; Manufacturer: Yageo; BOM2: 22,1 Ом ±1%, 1/10 Вт, SMD 0603, RC0603FR-0722R1L; ValueBOM: RC0603FR-0722R1L   Yageo                            (22,1 Ом ±1%, 1/10 Вт, SMD 0603, RC0603FR-0722R1L); Value: 22,1R; Part Number: RC0603FR-0722R1L; Package: 0603; BOM1: 22.1 Ohm ±1% 1/10W 0603 SMD
footprint RESC_0603_1608N (Chip Resistor, Body 1.6x0.8mm, IPC Medium Density)
footprint RESC_0603_1608M (Chip Resistor, Body 1.6x0.8mm, IPC Low Density)
footprint RESC_0603_1608L (Chip Resistor, Body 1.6x0.8mm, IPC High Density)
pins: 1, 2

## RC0603FR-0722R6L
designator R?, comment 22,6R
RC0603FR-0722R6L 0603 22.6 Ohm ±1% 1/10W 0603 SMD -55C...+155C; Manufacturer: Yageo; BOM2: 22,6 Ом ±1%, 1/10 Вт, SMD 0603, RC0603FR-0722R6L; ValueBOM: RC0603FR-0722R6L   Yageo                            (22,6 Ом ±1%, 1/10 Вт, SMD 0603, RC0603FR-0722R6L); Value: 22,6R; Part Number: RC0603FR-0722R6L; Package: 0603; BOM1: 22.6 Ohm ±1% 1/10W 0603 SMD
footprint RESC_0603_1608N (Chip Resistor, Body 1.6x0.8mm, IPC Medium Density)
footprint RESC_0603_1608M (Chip Resistor, Body 1.6x0.8mm, IPC Low Density)
footprint RESC_0603_1608L (Chip Resistor, Body 1.6x0.8mm, IPC High Density)
pins: 1, 2

## RC0603FR-0723K2L
designator R?, comment 23,2k
RC0603FR-0723K2L 0603 23.2 kOhm ±1% 1/10W 0603 SMD -55C...+155C; Manufacturer: Yageo; BOM2: 23,2 кОм ±1%, 1/10 Вт, SMD 0603, RC0603FR-0723K2L; ValueBOM: RC0603FR-0723K2L   Yageo                            (23,2 кОм ±1%, 1/10 Вт, SMD 0603, RC0603FR-0723K2L); Value: 23,2k; Part Number: RC0603FR-0723K2L; Package: 0603; BOM1: 23.2 kOhm ±1% 1/10W 0603 SMD
footprint RESC_0603_1608N (Chip Resistor, Body 1.6x0.8mm, IPC Medium Density)
footprint RESC_0603_1608M (Chip Resistor, Body 1.6x0.8mm, IPC Low Density)
footprint RESC_0603_1608L (Chip Resistor, Body 1.6x0.8mm, IPC High Density)
pins: 1, 2

## RC0603FR-0723K7L
designator R?, comment 23,7k
RC0603FR-0723K7L 0603 23.7 kOhm ±1% 1/10W 0603 SMD -55C...+155C; Manufacturer: Yageo; BOM2: 23,7 кОм ±1%, 1/10 Вт, SMD 0603, RC0603FR-0723K7L; ValueBOM: RC0603FR-0723K7L   Yageo                            (23,7 кОм ±1%, 1/10 Вт, SMD 0603, RC0603FR-0723K7L); Value: 23,7k; Part Number: RC0603FR-0723K7L; Package: 0603; BOM1: 23.7 kOhm ±1% 1/10W 0603 SMD
footprint RESC_0603_1608N (Chip Resistor, Body 1.6x0.8mm, IPC Medium Density)
footprint RESC_0603_1608M (Chip Resistor, Body 1.6x0.8mm, IPC Low Density)
footprint RESC_0603_1608L (Chip Resistor, Body 1.6x0.8mm, IPC High Density)
pins: 1, 2

## RC0603FR-0723R2L
designator R?, comment 23,2R
RC0603FR-0723R2L 0603 23.2 Ohm ±1% 1/10W 0603 SMD -55C...+155C; Manufacturer: Yageo; BOM2: 23,2 Ом ±1%, 1/10 Вт, SMD 0603, RC0603FR-0723R2L; ValueBOM: RC0603FR-0723R2L   Yageo                            (23,2 Ом ±1%, 1/10 Вт, SMD 0603, RC0603FR-0723R2L); Value: 23,2R; Part Number: RC0603FR-0723R2L; Package: 0603; BOM1: 23.2 Ohm ±1% 1/10W 0603 SMD
footprint RESC_0603_1608N (Chip Resistor, Body 1.6x0.8mm, IPC Medium Density)
footprint RESC_0603_1608M (Chip Resistor, Body 1.6x0.8mm, IPC Low Density)
footprint RESC_0603_1608L (Chip Resistor, Body 1.6x0.8mm, IPC High Density)
pins: 1, 2

## RC0603FR-0723R7L
designator R?, comment 23,7R
RC0603FR-0723R7L 0603 23.7 Ohm ±1% 1/10W 0603 SMD -55C...+155C; Manufacturer: Yageo; BOM2: 23,7 Ом ±1%, 1/10 Вт, SMD 0603, RC0603FR-0723R7L; ValueBOM: RC0603FR-0723R7L   Yageo                            (23,7 Ом ±1%, 1/10 Вт, SMD 0603, RC0603FR-0723R7L); Value: 23,7R; Part Number: RC0603FR-0723R7L; Package: 0603; BOM1: 23.7 Ohm ±1% 1/10W 0603 SMD
footprint RESC_0603_1608N (Chip Resistor, Body 1.6x0.8mm, IPC Medium Density)
footprint RESC_0603_1608M (Chip Resistor, Body 1.6x0.8mm, IPC Low Density)
footprint RESC_0603_1608L (Chip Resistor, Body 1.6x0.8mm, IPC High Density)
pins: 1, 2

## RC0603FR-0724K3L
designator R?, comment 24,3k
RC0603FR-0724K3L 0603 24.3 kOhm ±1% 1/10W 0603 SMD -55C...+155C; Manufacturer: Yageo; BOM2: 24,3 кОм ±1%, 1/10 Вт, SMD 0603, RC0603FR-0724K3L; ValueBOM: RC0603FR-0724K3L   Yageo                            (24,3 кОм ±1%, 1/10 Вт, SMD 0603, RC0603FR-0724K3L); Value: 24,3k; Part Number: RC0603FR-0724K3L; Package: 0603; BOM1: 24.3 kOhm ±1% 1/10W 0603 SMD
footprint RESC_0603_1608N (Chip Resistor, Body 1.6x0.8mm, IPC Medium Density)
footprint RESC_0603_1608M (Chip Resistor, Body 1.6x0.8mm, IPC Low Density)
footprint RESC_0603_1608L (Chip Resistor, Body 1.6x0.8mm, IPC High Density)
pins: 1, 2

## RC0603FR-0724K9L
designator R?, comment 24,9k
RC0603FR-0724K9L 0603 24.9 kOhm ±1% 1/10W 0603 SMD -55C...+155C; Manufacturer: Yageo; BOM2: 24,9 кОм ±1%, 1/10 Вт, SMD 0603, RC0603FR-0724K9L; ValueBOM: RC0603FR-0724K9L   Yageo                            (24,9 кОм ±1%, 1/10 Вт, SMD 0603, RC0603FR-0724K9L); Value: 24,9k; Part Number: RC0603FR-0724K9L; Package: 0603; BOM1: 24.9 kOhm ±1% 1/10W 0603 SMD
footprint RESC_0603_1608N (Chip Resistor, Body 1.6x0.8mm, IPC Medium Density)
footprint RESC_0603_1608M (Chip Resistor, Body 1.6x0.8mm, IPC Low Density)
footprint RESC_0603_1608L (Chip Resistor, Body 1.6x0.8mm, IPC High Density)
pins: 1, 2

## RC0603FR-0724R3L
designator R?, comment 24,3R
RC0603FR-0724R3L 0603 24.3 Ohm ±1% 1/10W 0603 SMD -55C...+155C; Manufacturer: Yageo; BOM2: 24,3 Ом ±1%, 1/10 Вт, SMD 0603, RC0603FR-0724R3L; ValueBOM: RC0603FR-0724R3L   Yageo                            (24,3 Ом ±1%, 1/10 Вт, SMD 0603, RC0603FR-0724R3L); Value: 24,3R; Part Number: RC0603FR-0724R3L; Package: 0603; BOM1: 24.3 Ohm ±1% 1/10W 0603 SMD
footprint RESC_0603_1608N (Chip Resistor, Body 1.6x0.8mm, IPC Medium Density)
footprint RESC_0603_1608M (Chip Resistor, Body 1.6x0.8mm, IPC Low Density)
footprint RESC_0603_1608L (Chip Resistor, Body 1.6x0.8mm, IPC High Density)
pins: 1, 2

## RC0603FR-0724R9L
designator R?, comment 24,9R
RC0603FR-0724R9L 0603 24.9 Ohm ±1% 1/10W 0603 SMD -55C...+155C; Manufacturer: Yageo; BOM2: 24,9 Ом ±1%, 1/10 Вт, SMD 0603, RC0603FR-0724R9L; ValueBOM: RC0603FR-0724R9L   Yageo                            (24,9 Ом ±1%, 1/10 Вт, SMD 0603, RC0603FR-0724R9L); Value: 24,9R; Part Number: RC0603FR-0724R9L; Package: 0603; BOM1: 24.9 Ohm ±1% 1/10W 0603 SMD
footprint RESC_0603_1608N (Chip Resistor, Body 1.6x0.8mm, IPC Medium Density)
footprint RESC_0603_1608M (Chip Resistor, Body 1.6x0.8mm, IPC Low Density)
footprint RESC_0603_1608L (Chip Resistor, Body 1.6x0.8mm, IPC High Density)
pins: 1, 2

## RC0603FR-0725K5L
designator R?, comment 25,5k
RC0603FR-0725K5L 0603 25.5 kOhm ±1% 1/10W 0603 SMD -55C...+155C; Manufacturer: Yageo; BOM2: 25,5 кОм ±1%, 1/10 Вт, SMD 0603, RC0603FR-0725K5L; ValueBOM: RC0603FR-0725K5L   Yageo                            (25,5 кОм ±1%, 1/10 Вт, SMD 0603, RC0603FR-0725K5L); Value: 25,5k; Part Number: RC0603FR-0725K5L; Package: 0603; BOM1: 25.5 kOhm ±1% 1/10W 0603 SMD
footprint RESC_0603_1608N (Chip Resistor, Body 1.6x0.8mm, IPC Medium Density)
footprint RESC_0603_1608M (Chip Resistor, Body 1.6x0.8mm, IPC Low Density)
footprint RESC_0603_1608L (Chip Resistor, Body 1.6x0.8mm, IPC High Density)
pins: 1, 2

## RC0603FR-0725R5L
designator R?, comment 25,5R
RC0603FR-0725R5L 0603 25.5 Ohm ±1% 1/10W 0603 SMD -55C...+155C; Manufacturer: Yageo; BOM2: 25,5 Ом ±1%, 1/10 Вт, SMD 0603, RC0603FR-0725R5L; ValueBOM: RC0603FR-0725R5L   Yageo                            (25,5 Ом ±1%, 1/10 Вт, SMD 0603, RC0603FR-0725R5L); Value: 25,5R; Part Number: RC0603FR-0725R5L; Package: 0603; BOM1: 25.5 Ohm ±1% 1/10W 0603 SMD
footprint RESC_0603_1608N (Chip Resistor, Body 1.6x0.8mm, IPC Medium Density)
footprint RESC_0603_1608M (Chip Resistor, Body 1.6x0.8mm, IPC Low Density)
footprint RESC_0603_1608L (Chip Resistor, Body 1.6x0.8mm, IPC High Density)
pins: 1, 2

## RC0603FR-0726K1L
designator R?, comment 26,1k
RC0603FR-0726K1L 0603 26.1 kOhm ±1% 1/10W 0603 SMD -55C...+155C; Manufacturer: Yageo; BOM2: 26,1 кОм ±1%, 1/10 Вт, SMD 0603, RC0603FR-0726K1L; ValueBOM: RC0603FR-0726K1L   Yageo                            (26,1 кОм ±1%, 1/10 Вт, SMD 0603, RC0603FR-0726K1L); Value: 26,1k; Part Number: RC0603FR-0726K1L; Package: 0603; BOM1: 26.1 kOhm ±1% 1/10W 0603 SMD
footprint RESC_0603_1608N (Chip Resistor, Body 1.6x0.8mm, IPC Medium Density)
footprint RESC_0603_1608M (Chip Resistor, Body 1.6x0.8mm, IPC Low Density)
footprint RESC_0603_1608L (Chip Resistor, Body 1.6x0.8mm, IPC High Density)
pins: 1, 2

## RC0603FR-0726K7L
designator R?, comment 26,7k
RC0603FR-0726K7L 0603 26.7 kOhm ±1% 1/10W 0603 SMD -55C...+155C; Manufacturer: Yageo; BOM2: 26,7 кОм ±1%, 1/10 Вт, SMD 0603, RC0603FR-0726K7L; ValueBOM: RC0603FR-0726K7L   Yageo                            (26,7 кОм ±1%, 1/10 Вт, SMD 0603, RC0603FR-0726K7L); Value: 26,7k; Part Number: RC0603FR-0726K7L; Package: 0603; BOM1: 26.7 kOhm ±1% 1/10W 0603 SMD
footprint RESC_0603_1608N (Chip Resistor, Body 1.6x0.8mm, IPC Medium Density)
footprint RESC_0603_1608M (Chip Resistor, Body 1.6x0.8mm, IPC Low Density)
footprint RESC_0603_1608L (Chip Resistor, Body 1.6x0.8mm, IPC High Density)
pins: 1, 2